# Altium integrated library 2305018-2.IntLib: 1 symbol
Pins are listed as number, name and electrical type; pins without a type are passive.

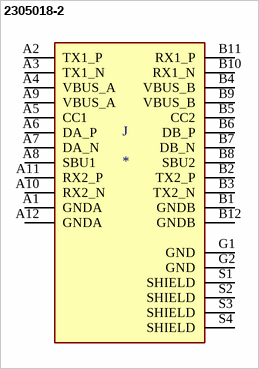
[diagram p0: symbol 2305018-2]

## 2305018-2
designator J
USB TYPE C, REC IPX8 ON BOARD DUAL SMT; MP: 2305018-2; MF: TE Connectivity; Value: *; SnapEDA_Link: https://www.snapeda.com/parts/2305018-2/TE%20Connectivity%20AMP%20Connectors/view-part/2772329/?ref=snap; Package: None; Availability: Unavailable; TE_purchase_URL: https://www.te.com/usa-en/product-2305018-2.html?te_bu=Cor&te_type=disp&te_campaign=seda_glo_cor-seda-global-disp-prtnr-fy19-seda-model-bom-cta_sma-317_1&elqCampaignId=32493; Price: None
footprint TE_2305018-2
pins: A1 GNDA, A2 TX1_P, A3 TX1_N, A4 VBUS_A, A5 CC1, A6 DA_P, A7 DA_N, A8 SBU1, A9 VBUS_A, A10 RX2_N, A11 RX2_P, A12 GNDA, B1 GNDB, B2 TX2_P, B3 TX2_N, B4 VBUS_B, B5 CC2, B6 DB_P, B7 DB_N, B8 SBU2, B9 VBUS_B, B10 RX1_N, B11 RX1_P, B12 GNDB, G1 GND (power), G2 GND (power), S1 SHIELD (power), S2 SHIELD (power), S3 SHIELD (power), S4 SHIELD (power)